# EAGLE library part GPS_FOX1 (library GPS_fox1)
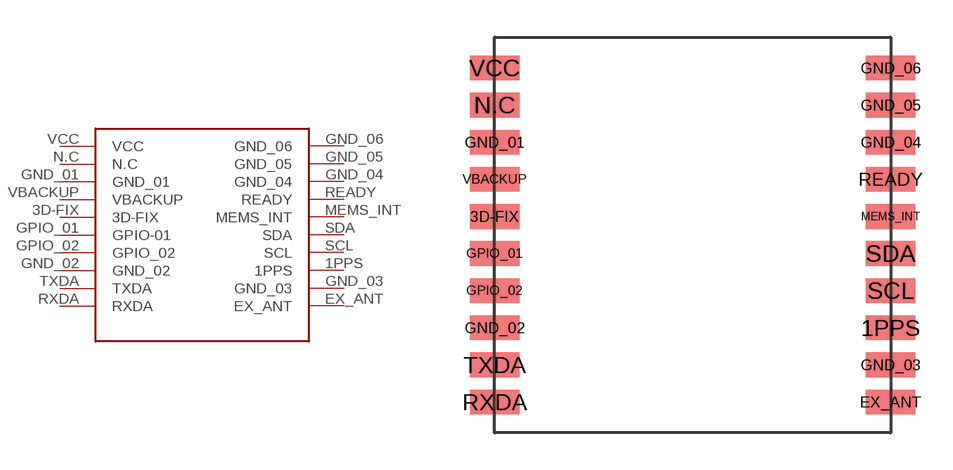
[diagram p0: symbol with the pads of GPS-FOX1; footprint GPS-FOX1]

Designator prefix -

## GPS_FOX1  [GPS-FOX1]
1PPS  1PPS
3D-FIX  3D-FIX
EX_ANT  EX_ANT
GND_01  GND_01
GND_02  GND_02
GND_03  GND_03
GND_04  GND_04
GND_05  GND_05
GND_06  GND_06
GPIO_01  GPIO-01
GPIO_02  GPIO_02
MEMS_INT  MEMS_INT
N.C  N.C
READY  READY
RXDA  RXDA
SCL  SCL
SDA  SDA
TXDA  TXDA
VBACKUP  VBACKUP
VCC  VCC

## Footprint GPS-FOX1 (pad centres in mm)
smd 2 x 1: 1PPS 8,-3.75; 3D-FIX -8,0.75; EX_ANT 8,-6.75; GND_01 -8,3.75; GND_02 -8,-3.75; GND_03 8,-5.25; GND_04 8,3.75; GND_05 8,5.25; GND_06 8,6.75; GPIO_01 -8,-0.75; GPIO_02 -8,-2.25; MEMS_INT 8,0.75; N.C -8,5.25; READY 8,2.25; RXDA -8,-6.75; SCL 8,-2.25; SDA 8,-0.75; TXDA -8,-5.25; VBACKUP -8,2.25; VCC -8,6.75